# Altium footprint library MIC521933YM5TR.PcbLib: 3 footprints
Each footprint in its own frame and in the unit in brackets; x right, y up, seen from the top. Pads: shape width x height; smd on the part's side, far side on the other; paste and mask are expansions set on the pad; w line width, h text height; cw(c..) or ccw(c..) is an arc to the next point about the centre after c.
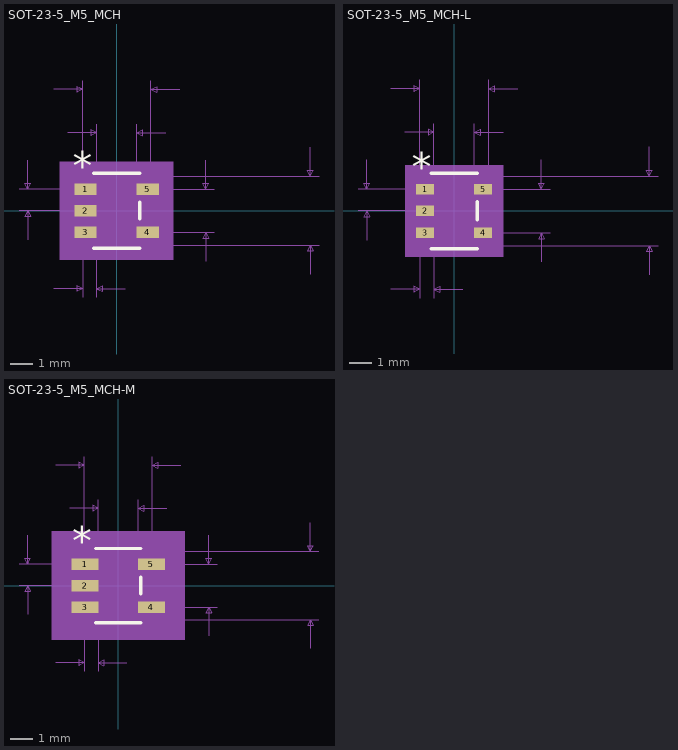
[diagram p0: the footprints below, top view; thin cyan lines are the x and y axes]

## SOT-23-5_M5_MCH [mil]
pads (5):
  rect 38.5x20 smd paste+0 mask+0: 1(-53.75,37.4) 2(-53.75,0) 3(-53.75,-37.4) 4(53.75,-37.4) 5(53.75,37.4)
Top Overlay:
  lines w6: -39.5,-64.5 39.5,-64.5 ; -39.5,64.5 39.5,64.5 ; 39.5,-14.3 39.5,14.3
  text "*" at -76.25,52.4 h50
Mechanical 5:
  region: 98,-84.5 -98,-84.5 -98,84.5 98,84.5
Mechanical 7:
  lines w1: -168.75,0 -53.75,0 ; -168.75,37.4 -53.75,37.4 ; -153.75,-50 -153.75,0 ; -153.75,87.4 -153.75,37.4 ; -109,-134.5 -59,-134.5 ; -109,209.5 -59,209.5 ; -84.5,134.5 -34.5,134.5 ; -59,-149.5 -59,0 -59,224.5 ; -35,-149.5 -35,0 ; -34.5,0 -34.5,149.5 ; 0,-59.5 349.5,-59.5 ; 0,59.5 349.5,59.5 ; 15,-134.5 -35,-134.5 ; 34.5,0 34.5,149.5 ; 53.75,-37.4 168.75,-37.4 ; 53.75,37.4 168.75,37.4 ; 59,0 59,224.5 ; 84.5,134.5 34.5,134.5 ; 109,209.5 59,209.5 ; 153.75,-87.4 153.75,-37.4 ; 153.75,87.4 153.75,37.4 ; 334.5,-109.5 334.5,-59.5 ; 334.5,109.5 334.5,59.5 ; -153.75,0 -158.75,-10 -148.75,-10 -153.75,0 ; -153.75,37.4 -158.75,47.4 -148.75,47.4 -153.75,37.4 ; -59,-134.5 -69,-129.5 -69,-139.5 -59,-134.5 ; -59,209.5 -69,214.5 -69,204.5 -59,209.5 ; -35,-134.5 -25,-129.5 -25,-139.5 -35,-134.5 ; -34.5,134.5 -44.5,139.5 -44.5,129.5 -34.5,134.5 ; 34.5,134.5 44.5,139.5 44.5,129.5 34.5,134.5 ; 59,209.5 69,214.5 69,204.5 59,209.5 ; 153.75,-37.4 148.75,-47.4 158.75,-47.4 153.75,-37.4 ; 153.75,37.4 148.75,47.4 158.75,47.4 153.75,37.4 ; 334.5,-59.5 329.5,-69.5 339.5,-69.5 334.5,-59.5 ; 334.5,59.5 329.5,69.5 339.5,69.5 334.5,59.5
  text "Pin One Padstyle: RX38p5Y20D0T" at -375,-319.5 h50
  text "Default Padstyle: RX38p5Y20D0T" at -375,-259.5 h50
  text "Alt 1 Padstyle: OX60Y90D30P" at -337.5,-499.5 h50
  text "Alt 2 Padstyle: OX90Y60D30P" at -337.5,-559.5 h50
  text "0.069in/1.753mm" at -93.75,154.5 h25
  text "0.118in/2.997mm" at -93.75,229.5 h25
  text "0.119in/3.023mm" at 354.5,-12.5 h25
  text "0.037in/0.95mm" at -348.75,6.2 h25
  text "0.075in/1.9mm" at 173.75,-12.5 h25
  text "0.024in/0.61mm" at -134.5,-179.5 h25
Mechanical 13:
  lines w0: -12,59.5 ccw(c0,59.5) 12,59.5
  lines w1: -59,-47.4 -59,-27.4 -34.5,-27.4 -34.5,-47.4 -59,-47.4 ; -59,-10 -59,10 -34.5,10 -34.5,-10 -59,-10 ; -59,27.4 -59,47.4 -34.5,47.4 -34.5,27.4 -59,27.4 ; -34.5,-59.5 34.5,-59.5 34.5,59.5 -34.5,59.5 -34.5,-59.5 ; 34.5,-47.4 34.5,-27.4 59,-27.4 59,-47.4 34.5,-47.4 ; 34.5,27.4 34.5,47.4 59,47.4 59,27.4 34.5,27.4
  text "*" at -37,9.4 h50
Mechanical 15:
  region: 44.5,-69.5 -44.5,-69.5 -44.5,-52.4 -79,-52.4 -79,52.4 -44.5,52.4 -44.5,69.5 44.5,69.5 44.5,52.4 79,52.4 79,-52.4 44.5,-52.4
  lines w6: -79,-52.4 -44.5,-52.4 -44.5,-69.5 44.5,-69.5 44.5,-52.4 79,-52.4 79,52.4 44.5,52.4 44.5,69.5 -44.5,69.5 -44.5,52.4 -79,52.4 -79,-52.4
3D body: height 10, standoff 0, extent 0,0 10,10

## SOT-23-5_M5_MCH-L [mil]
pads (5):
  rect 30.5x18 smd paste+0 mask+0: 1(-49.75,37.4) 2(-49.75,0) 3(-49.75,-37.4) 4(49.75,-37.4) 5(49.75,37.4)
Top Overlay:
  lines w6: -39.5,-64.5 39.5,-64.5 ; -39.5,64.5 39.5,64.5 ; 39.5,-15.3 39.5,15.3
  text "*" at -72.25,50.4 h50
Mechanical 5:
  region: 84,-78.5 -84,-78.5 -84,78.5 84,78.5
Mechanical 7:
  lines w1: -164.75,0 -49.75,0 ; -164.75,37.4 -49.75,37.4 ; -149.75,-50 -149.75,0 ; -149.75,87.4 -149.75,37.4 ; -109,-134.5 -59,-134.5 ; -109,209.5 -59,209.5 ; -84.5,134.5 -34.5,134.5 ; -59,-149.5 -59,0 -59,224.5 ; -35,-149.5 -35,0 ; -34.5,0 -34.5,149.5 ; 0,-59.5 349.5,-59.5 ; 0,59.5 349.5,59.5 ; 15,-134.5 -35,-134.5 ; 34.5,0 34.5,149.5 ; 49.75,-37.4 164.75,-37.4 ; 49.75,37.4 164.75,37.4 ; 59,0 59,224.5 ; 84.5,134.5 34.5,134.5 ; 109,209.5 59,209.5 ; 149.75,-87.4 149.75,-37.4 ; 149.75,87.4 149.75,37.4 ; 334.5,-109.5 334.5,-59.5 ; 334.5,109.5 334.5,59.5 ; -149.75,0 -154.75,-10 -144.75,-10 -149.75,0 ; -149.75,37.4 -154.75,47.4 -144.75,47.4 -149.75,37.4 ; -59,-134.5 -69,-129.5 -69,-139.5 -59,-134.5 ; -59,209.5 -69,214.5 -69,204.5 -59,209.5 ; -35,-134.5 -25,-129.5 -25,-139.5 -35,-134.5 ; -34.5,134.5 -44.5,139.5 -44.5,129.5 -34.5,134.5 ; 34.5,134.5 44.5,139.5 44.5,129.5 34.5,134.5 ; 59,209.5 69,214.5 69,204.5 59,209.5 ; 149.75,-37.4 144.75,-47.4 154.75,-47.4 149.75,-37.4 ; 149.75,37.4 144.75,47.4 154.75,47.4 149.75,37.4 ; 334.5,-59.5 329.5,-69.5 339.5,-69.5 334.5,-59.5 ; 334.5,59.5 329.5,69.5 339.5,69.5 334.5,59.5
  text "Pin One Padstyle: RX30p5Y18D0T" at -375,-319.5 h50
  text "Default Padstyle: RX30p5Y18D0T" at -375,-259.5 h50
  text "Alt 1 Padstyle: OX60Y90D30P" at -337.5,-499.5 h50
  text "Alt 2 Padstyle: OX90Y60D30P" at -337.5,-559.5 h50
  text "0.069in/1.753mm" at -93.75,154.5 h25
  text "0.118in/2.997mm" at -93.75,229.5 h25
  text "0.119in/3.023mm" at 354.5,-12.5 h25
  text "0.037in/0.95mm" at -344.75,6.2 h25
  text "0.075in/1.9mm" at 169.75,-12.5 h25
  text "0.024in/0.61mm" at -134.5,-179.5 h25
Mechanical 13:
  lines w0: -12,59.5 ccw(c0,59.5) 12,59.5
  lines w1: -59,-47.4 -59,-27.4 -34.5,-27.4 -34.5,-47.4 -59,-47.4 ; -59,-10 -59,10 -34.5,10 -34.5,-10 -59,-10 ; -59,27.4 -59,47.4 -34.5,47.4 -34.5,27.4 -59,27.4 ; -34.5,-59.5 34.5,-59.5 34.5,59.5 -34.5,59.5 -34.5,-59.5 ; 34.5,-47.4 34.5,-27.4 59,-27.4 59,-47.4 34.5,-47.4 ; 34.5,27.4 34.5,47.4 59,47.4 59,27.4 34.5,27.4
  text "*" at -37,7.4 h50
Mechanical 15:
  region: 38.5,-63.5 -38.5,-63.5 -38.5,-43.4 -67,-43.4 -67,43.4 -38.5,43.4 -38.5,63.5 38.5,63.5 38.5,43.4 67,43.4 67,-43.4 38.5,-43.4
  lines w6: -67,-43.4 -38.5,-43.4 -38.5,-63.5 38.5,-63.5 38.5,-43.4 67,-43.4 67,43.4 38.5,43.4 38.5,63.5 -38.5,63.5 -38.5,43.4 -67,43.4 -67,-43.4
3D body: height 10, standoff 0, extent 0,0 10,10

## SOT-23-5_M5_MCH-M [mil]
pads (5):
  rect 46.5x20 smd paste+0 mask+0: 1(-57.75,37.4) 2(-57.75,0) 3(-57.75,-37.4) 4(57.75,-37.4) 5(57.75,37.4)
Top Overlay:
  lines w6: -39.5,-64.5 39.5,-64.5 ; -39.5,64.5 39.5,64.5 ; 39.5,-14.3 39.5,14.3
  text "*" at -80.25,52.4 h50
Mechanical 5:
  region: 116,-94.5 -116,-94.5 -116,94.5 116,94.5
Mechanical 7:
  lines w1: -172.75,0 -57.75,0 ; -172.75,37.4 -57.75,37.4 ; -157.75,-50 -157.75,0 ; -157.75,87.4 -157.75,37.4 ; -109,-134.5 -59,-134.5 ; -109,209.5 -59,209.5 ; -84.5,134.5 -34.5,134.5 ; -59,-149.5 -59,0 -59,224.5 ; -35,-149.5 -35,0 ; -34.5,0 -34.5,149.5 ; 0,-59.5 349.5,-59.5 ; 0,59.5 349.5,59.5 ; 15,-134.5 -35,-134.5 ; 34.5,0 34.5,149.5 ; 57.75,-37.4 172.75,-37.4 ; 57.75,37.4 172.75,37.4 ; 59,0 59,224.5 ; 84.5,134.5 34.5,134.5 ; 109,209.5 59,209.5 ; 157.75,-87.4 157.75,-37.4 ; 157.75,87.4 157.75,37.4 ; 334.5,-109.5 334.5,-59.5 ; 334.5,109.5 334.5,59.5 ; -157.75,0 -162.75,-10 -152.75,-10 -157.75,0 ; -157.75,37.4 -162.75,47.4 -152.75,47.4 -157.75,37.4 ; -59,-134.5 -69,-129.5 -69,-139.5 -59,-134.5 ; -59,209.5 -69,214.5 -69,204.5 -59,209.5 ; -35,-134.5 -25,-129.5 -25,-139.5 -35,-134.5 ; -34.5,134.5 -44.5,139.5 -44.5,129.5 -34.5,134.5 ; 34.5,134.5 44.5,139.5 44.5,129.5 34.5,134.5 ; 59,209.5 69,214.5 69,204.5 59,209.5 ; 157.75,-37.4 152.75,-47.4 162.75,-47.4 157.75,-37.4 ; 157.75,37.4 152.75,47.4 162.75,47.4 157.75,37.4 ; 334.5,-59.5 329.5,-69.5 339.5,-69.5 334.5,-59.5 ; 334.5,59.5 329.5,69.5 339.5,69.5 334.5,59.5
  text "Pin One Padstyle: RX46p5Y20D0T" at -375,-319.5 h50
  text "Default Padstyle: RX46p5Y20D0T" at -375,-259.5 h50
  text "Alt 1 Padstyle: OX60Y90D30P" at -337.5,-499.5 h50
  text "Alt 2 Padstyle: OX90Y60D30P" at -337.5,-559.5 h50
  text "0.069in/1.753mm" at -93.75,154.5 h25
  text "0.118in/2.997mm" at -93.75,229.5 h25
  text "0.119in/3.023mm" at 354.5,-12.5 h25
  text "0.037in/0.95mm" at -352.75,6.2 h25
  text "0.075in/1.9mm" at 177.75,-12.5 h25
  text "0.024in/0.61mm" at -134.5,-179.5 h25
Mechanical 13:
  lines w0: -12,59.5 ccw(c0,59.5) 12,59.5
  lines w1: -59,-47.4 -59,-27.4 -34.5,-27.4 -34.5,-47.4 -59,-47.4 ; -59,-10 -59,10 -34.5,10 -34.5,-10 -59,-10 ; -59,27.4 -59,47.4 -34.5,47.4 -34.5,27.4 -59,27.4 ; -34.5,-59.5 34.5,-59.5 34.5,59.5 -34.5,59.5 -34.5,-59.5 ; 34.5,-47.4 34.5,-27.4 59,-27.4 59,-47.4 34.5,-47.4 ; 34.5,27.4 34.5,47.4 59,47.4 59,27.4 34.5,27.4
  text "*" at -37,9.4 h50
Mechanical 15:
  region: 54.5,-79.5 -54.5,-79.5 -54.5,-67.4 -99,-67.4 -99,67.4 -54.5,67.4 -54.5,79.5 54.5,79.5 54.5,67.4 99,67.4 99,-67.4 54.5,-67.4
  lines w6: -99,-67.4 -54.5,-67.4 -54.5,-79.5 54.5,-79.5 54.5,-67.4 99,-67.4 99,67.4 54.5,67.4 54.5,79.5 -54.5,79.5 -54.5,67.4 -99,67.4 -99,-67.4
3D body: height 10, standoff 0, extent 0,0 10,10